# Altium schematic symbol library C4.7uF.SCHLIB: 1 symbol
Pins are listed as number, name and electrical type; pins without a type are passive.

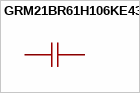
[diagram p0: symbol GRM21BR61H106KE43L]

## GRM21BR61H106KE43L
designator C??, comment 10uF  (value not drawn)
Manufacturer: muRata(村田); Symbol: GRM21BR61H106KE43L; Add into BOM: yes; Tolerance: ±10%; Voltage Rated: 50V; Temperature Coefficient: X5R; Device: GRM21BR61H106KE43L; LCSC Part Name: 10uF ±10% 50V; Supplier Part: C440198; Manufacturer Part: GRM21BR61H106KE43L; Supplier Footprint: 0805; JLCPCB Part Class: Basic Part; Datasheet: https://atta.szlcsc.com/upload/public/pdf/source/20230811/95AAE0C9AF55EDC31B7A4D8B733F534E.pdf; Supplier: LCSC; Convert to PCB: yes; Value: 10uF
footprint C0805
pins: 1, 2